# Altium integrated library TI Amplifiers and Linear Operational Amplifier Precision Amplifier Part Two.IntLib: 2300 symbols (part 41 of 81)
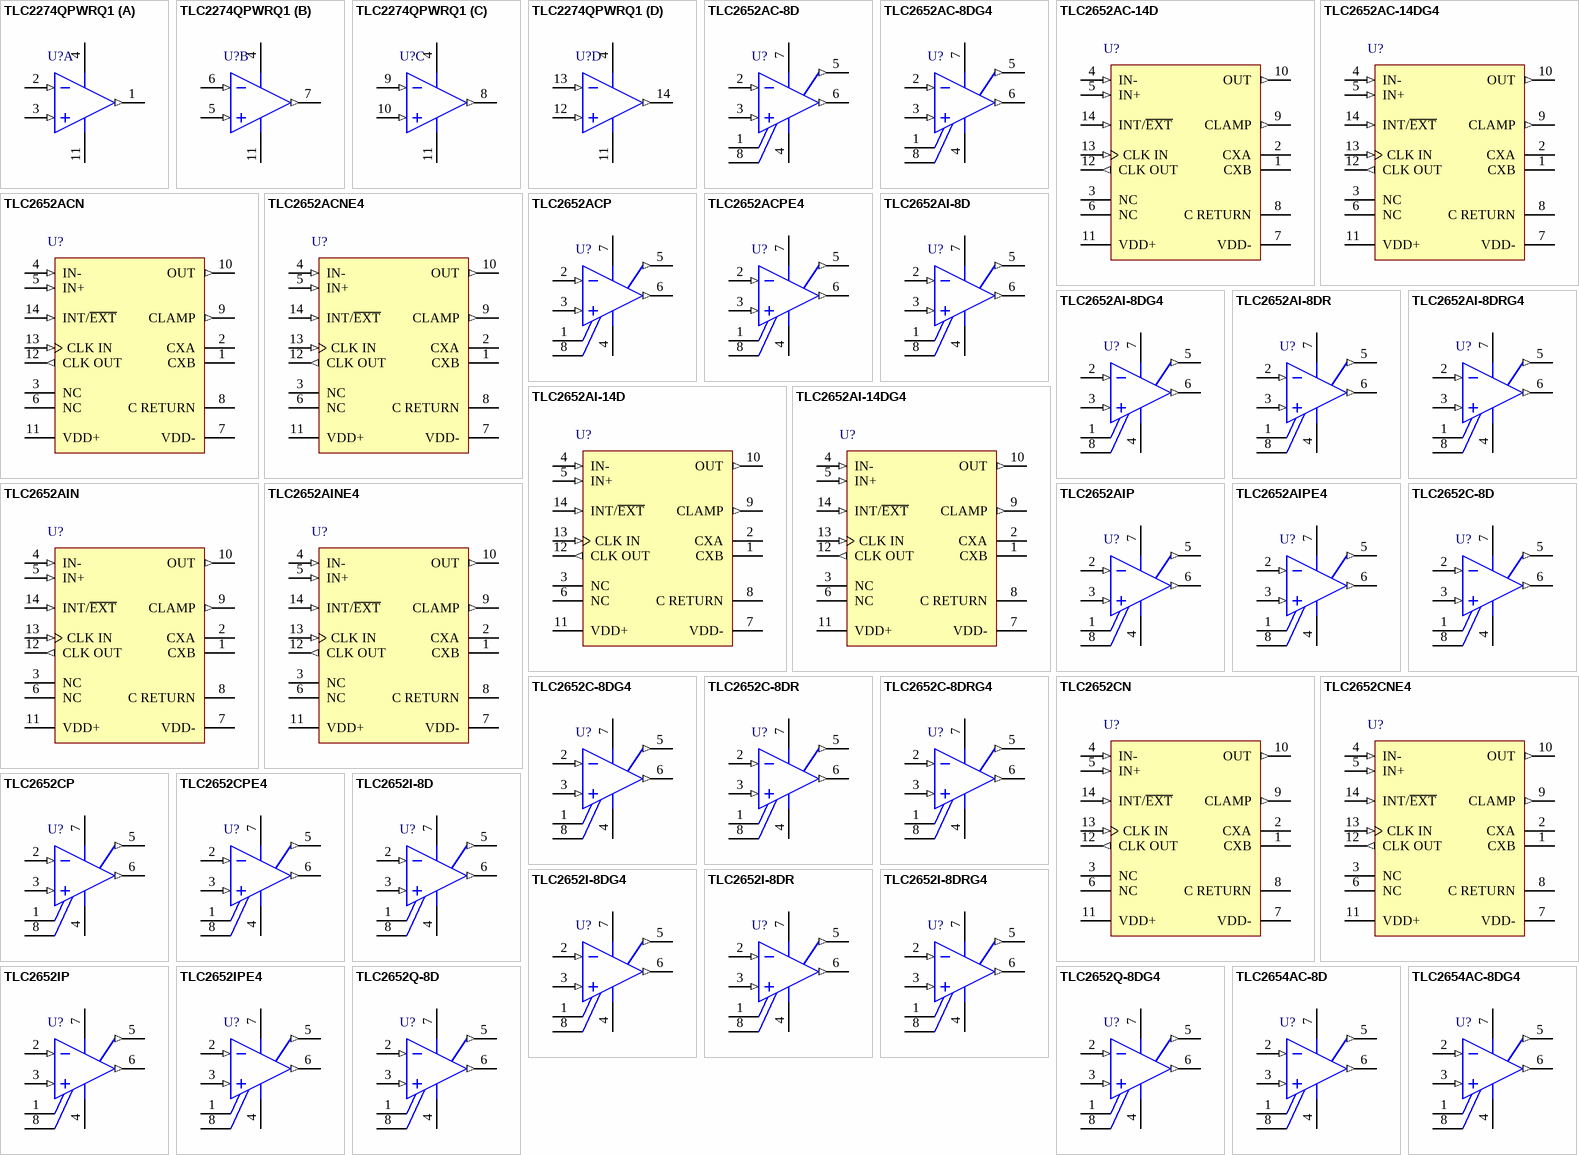
[diagram p176: symbols TLC2274QPWRQ1 to TLC2654AC-8DG4]

## TLC2652C-8DRG4
designator U?
Precision Chopper-Stabilized Operational Amplifier, 3.8 to 16 V, 0 to 70 degC, 8-pin SOIC (D8), Green (RoHS & no Sb/Br); Manufacturer: Texas Instruments; PartNumber: TLC2652C-8DRG4; CMRR(Min)(dB): 120; GBW(Typ)(MHz): 1.9; IIB(Max)(pA): 60; Iq per channel(Max)(mA): 2.4; Number of Channels: 1; Offset Drift(Typ)(uV/C): 0.003; Packing: LARGE T&R; Rating: Catalog; Slew Rate(Typ)(V/us): 2.8; Sub Family: Low Offset Voltage Amplifier (<=500uV), Precision Amplifier; Total Supply Voltage(Max)(+5V is 5, +/-5V is 10): 16; Total Supply Voltage(Min)(+5V is 5, +/-5V is 10): 3.8; DatasheetVersion: SLOS019E; PackageVersion: 4040047-3/M, 06/2011; PackageReference: D8; PackageDescription: 8-Pin Plastic Small Outline, Body 4.9 x 3.9 mm, Pitch 1.27 mm; Supplier 1: Digi-Key; Supplier Part Number 1: TLC2652C-8DRG4-ND; Supplier 2: Mouser; Supplier Part Number 2: 595-TLC2652C-8DRG4; Eco-Plan: Green (RoHS & no Sb/Br); Vio (25C)(Max)(mV): 0.003; Mounting Technology: Surface Mount; Code_JEDEC: MS-012; ComponentLink1Description: Manufacturer URL; ComponentLink1URL: http://www.ti.com/; ComponentLink2Description: Datasheet; ComponentLink2URL: http://www.ti.com/lit/ds/symlink/tlc2652.pdf; ComponentLink3Description: Package Specification; ComponentLink3URL: http://www.ti.com/litv/pdf/msoi002j
footprint TI-D8_N (SOIC, 8-Leads, Body 4.9x3.9mm, Pitch 1.27mm, IPC Medium Density)
footprint TI-D8_L (SOIC, 8-Leads, Body 4.9x3.9mm, Pitch 1.27mm, IPC High Density)
footprint TI-D8_M (SOIC, 8-Leads, Body 4.9x3.9mm, Pitch 1.27mm, IPC Low Density)
pins: 1 CXA, 2 IN- (in), 3 IN+ (in), 4 VDD- (power), 5 CLAMP (out), 6 OUT (out), 7 VDD+ (power), 8 CXB

## TLC2652CN
designator U?
Precision Chopper-Stabilized Operational Amplifier, 3.8 to 16 V, 0 to 70 degC, 14-pin DIP (N14), Pb-Free (RoHS); Manufacturer: Texas Instruments; PartNumber: TLC2652CN; CMRR(Min)(dB): 120; GBW(Typ)(MHz): 1.9; IIB(Max)(pA): 60; Iq per channel(Max)(mA): 2.4; Number of Channels: 1; Offset Drift(Typ)(uV/C): 0.003; Packing: TUBE; Rating: Catalog; Slew Rate(Typ)(V/us): 2.8; Sub Family: Low Offset Voltage Amplifier (<=500uV), Precision Amplifier; Total Supply Voltage(Max)(+5V is 5, +/-5V is 10): 16; Total Supply Voltage(Min)(+5V is 5, +/-5V is 10): 3.8; DatasheetVersion: SLOS019E; PackageVersion: 4040049/E, 12/2002; PackageReference: N14; PackageDescription: 14-Pin Plastic In-Line, Body 19.305 x 6.35 mm, Pitch 2.54 mm; Supplier 1: Digi-Key; Supplier Part Number 1: 296-7322-5-ND; Supplier 2: Farnell; Supplier Part Number 2: 3054524; Supplier 3: Newark; Supplier Part Number 3: 76C7043; Supplier 4: Mouser; Supplier Part Number 4: 595-TLC2652CN; Eco-Plan: Pb-Free (RoHS); Vio (25C)(Max)(mV): 0.003; Mounting Technology: Through Hole; Code_JEDEC: MS-001; ComponentLink1Description: Manufacturer URL; ComponentLink1URL: http://www.ti.com/; ComponentLink2Description: Datasheet; ComponentLink2URL: http://www.ti.com/lit/ds/symlink/tlc2652.pdf; ComponentLink3Description: Package Specification; ComponentLink3URL: http://www.ti.com/lit/ml/mpdi002c/mpdi002c.pdf
footprint TI-N14 (DIP, 14-Leads, Body 19.305x6.35 mm, Pitch 2.54 mm)
pins: 1 CXB, 2 CXA, 3 NC, 4 IN- (in), 5 IN+ (in), 6 NC, 7 VDD- (power), 8 C RETURN (power), 9 CLAMP (out), 10 OUT (out), 11 VDD+ (power), 12 CLK OUT (out), 13 CLK IN (in), 14 INT/~{EXT} (in)

## TLC2652CNE4
designator U?
Precision Chopper-Stabilized Operational Amplifier, 3.8 to 16 V, 0 to 70 degC, 14-pin DIP (N14), Pb-Free (RoHS); Manufacturer: Texas Instruments; PartNumber: TLC2652CNE4; CMRR(Min)(dB): 120; GBW(Typ)(MHz): 1.9; IIB(Max)(pA): 60; Iq per channel(Max)(mA): 2.4; Number of Channels: 1; Offset Drift(Typ)(uV/C): 0.003; Packing: TUBE; Rating: Catalog; Slew Rate(Typ)(V/us): 2.8; Sub Family: Low Offset Voltage Amplifier (<=500uV), Precision Amplifier; Total Supply Voltage(Max)(+5V is 5, +/-5V is 10): 16; Total Supply Voltage(Min)(+5V is 5, +/-5V is 10): 3.8; DatasheetVersion: SLOS019E; PackageVersion: 4040049/E, 12/2002; PackageReference: N14; PackageDescription: 14-Pin Plastic In-Line, Body 19.305 x 6.35 mm, Pitch 2.54 mm; Supplier 1: Digi-Key; Supplier Part Number 1: TLC2652CNE4-ND; Supplier 2: Newark; Supplier Part Number 2: 24K5218; Supplier 3: Mouser; Supplier Part Number 3: 595-TLC2652CNE4; Eco-Plan: Pb-Free (RoHS); Vio (25C)(Max)(mV): 0.003; Mounting Technology: Through Hole; Code_JEDEC: MS-001; ComponentLink1Description: Manufacturer URL; ComponentLink1URL: http://www.ti.com/; ComponentLink2Description: Datasheet; ComponentLink2URL: http://www.ti.com/lit/ds/symlink/tlc2652.pdf; ComponentLink3Description: Package Specification; ComponentLink3URL: http://www.ti.com/lit/ml/mpdi002c/mpdi002c.pdf
footprint TI-N14 (DIP, 14-Leads, Body 19.305x6.35 mm, Pitch 2.54 mm)
pins: 1 CXB, 2 CXA, 3 NC, 4 IN- (in), 5 IN+ (in), 6 NC, 7 VDD- (power), 8 C RETURN (power), 9 CLAMP (out), 10 OUT (out), 11 VDD+ (power), 12 CLK OUT (out), 13 CLK IN (in), 14 INT/~{EXT} (in)

## TLC2652CP
designator U?
Precision Chopper-Stabilized Operational Amplifier, 3.8 to 16 V, 0 to 70 degC, 8-pin DIP (P8), Pb-Free (RoHS); Manufacturer: Texas Instruments; PartNumber: TLC2652CP; CMRR(Min)(dB): 120; GBW(Typ)(MHz): 1.9; IIB(Max)(pA): 60; Iq per channel(Max)(mA): 2.4; Number of Channels: 1; Offset Drift(Typ)(uV/C): 0.003; Packing: TUBE; Rating: Catalog; Slew Rate(Typ)(V/us): 2.8; Sub Family: Low Offset Voltage Amplifier (<=500uV), Precision Amplifier; Total Supply Voltage(Max)(+5V is 5, +/-5V is 10): 16; Total Supply Voltage(Min)(+5V is 5, +/-5V is 10): 3.8; DatasheetVersion: SLOS019E; PackageVersion: 4040082/E, 04/2010; PackageReference: P8; PackageDescription: 8-Pin Plastic In-Line, Body 9.59 x 6.35 mm, Pitch 2.54 mm; Supplier 1: Digi-Key; Supplier Part Number 1: 296-7323-5-ND; Supplier 2: Farnell; Supplier Part Number 2: 1102937; Supplier 3: Newark; Supplier Part Number 3: 24M8276; Supplier 4: Mouser; Supplier Part Number 4: 595-TLC2652CP; Eco-Plan: Pb-Free (RoHS); Vio (25C)(Max)(mV): 0.003; Mounting Technology: Through Hole; Code_JEDEC: MS-001; ComponentLink1Description: Manufacturer URL; ComponentLink1URL: http://www.ti.com/; ComponentLink2Description: Datasheet; ComponentLink2URL: http://www.ti.com/lit/ds/symlink/tlc2652.pdf; ComponentLink3Description: Package Specification; ComponentLink3URL: http://www.ti.com/litv/pdf/mpdi001b
footprint TI-P8 (DIP, 8-Leads, Body 9.59x6.35mm, Pitch 2.54mm)
pins: 1 CXA, 2 IN- (in), 3 IN+ (in), 4 VDD- (power), 5 CLAMP (out), 6 OUT (out), 7 VDD+ (power), 8 CXB

## TLC2652CPE4
designator U?
Precision Chopper-Stabilized Operational Amplifier, 3.8 to 16 V, 0 to 70 degC, 8-pin DIP (P8), Pb-Free (RoHS); Manufacturer: Texas Instruments; PartNumber: TLC2652CPE4; CMRR(Min)(dB): 120; GBW(Typ)(MHz): 1.9; IIB(Max)(pA): 60; Iq per channel(Max)(mA): 2.4; Number of Channels: 1; Offset Drift(Typ)(uV/C): 0.003; Packing: TUBE; Rating: Catalog; Slew Rate(Typ)(V/us): 2.8; Sub Family: Low Offset Voltage Amplifier (<=500uV), Precision Amplifier; Total Supply Voltage(Max)(+5V is 5, +/-5V is 10): 16; Total Supply Voltage(Min)(+5V is 5, +/-5V is 10): 3.8; DatasheetVersion: SLOS019E; PackageVersion: 4040082/E, 04/2010; PackageReference: P8; PackageDescription: 8-Pin Plastic In-Line, Body 9.59 x 6.35 mm, Pitch 2.54 mm; Supplier 1: Digi-Key; Supplier Part Number 1: TLC2652CPE4-ND; Supplier 2: Mouser; Supplier Part Number 2: 595-TLC2652CPE4; Eco-Plan: Pb-Free (RoHS); Vio (25C)(Max)(mV): 0.003; Mounting Technology: Through Hole; Code_JEDEC: MS-001; ComponentLink1Description: Manufacturer URL; ComponentLink1URL: http://www.ti.com/; ComponentLink2Description: Datasheet; ComponentLink2URL: http://www.ti.com/lit/ds/symlink/tlc2652.pdf; ComponentLink3Description: Package Specification; ComponentLink3URL: http://www.ti.com/litv/pdf/mpdi001b
footprint TI-P8 (DIP, 8-Leads, Body 9.59x6.35mm, Pitch 2.54mm)
pins: 1 CXA, 2 IN- (in), 3 IN+ (in), 4 VDD- (power), 5 CLAMP (out), 6 OUT (out), 7 VDD+ (power), 8 CXB

## TLC2652I-8D
designator U?
Precision Chopper-Stabilized Operational Amplifier, 3.8 to 16 V, -40 to 85 degC, 8-pin SOIC (D8), Green (RoHS & no Sb/Br); Manufacturer: Texas Instruments; PartNumber: TLC2652I-8D; CMRR(Min)(dB): 120; GBW(Typ)(MHz): 1.9; IIB(Max)(pA): 60; Iq per channel(Max)(mA): 2.4; Number of Channels: 1; Offset Drift(Typ)(uV/C): 0.003; Packing: TUBE; Rating: Catalog; Slew Rate(Typ)(V/us): 2.8; Sub Family: Low Offset Voltage Amplifier (<=500uV), Precision Amplifier; Total Supply Voltage(Max)(+5V is 5, +/-5V is 10): 16; Total Supply Voltage(Min)(+5V is 5, +/-5V is 10): 3.8; DatasheetVersion: SLOS019E; PackageVersion: 4040047-3/M, 06/2011; PackageReference: D8; PackageDescription: 8-Pin Plastic Small Outline, Body 4.9 x 3.9 mm, Pitch 1.27 mm; Supplier 1: Digi-Key; Supplier Part Number 1: 296-7324-5-ND; Supplier 2: Newark; Supplier Part Number 2: 76C7045; Supplier 3: Mouser; Supplier Part Number 3: 595-TLC2652I-8D; Eco-Plan: Green (RoHS & no Sb/Br); Vio (25C)(Max)(mV): 0.003; Mounting Technology: Surface Mount; Code_JEDEC: MS-012; ComponentLink1Description: Manufacturer URL; ComponentLink1URL: http://www.ti.com/; ComponentLink2Description: Datasheet; ComponentLink2URL: http://www.ti.com/lit/ds/symlink/tlc2652.pdf; ComponentLink3Description: Package Specification; ComponentLink3URL: http://www.ti.com/litv/pdf/msoi002j
footprint TI-D8_N (SOIC, 8-Leads, Body 4.9x3.9mm, Pitch 1.27mm, IPC Medium Density)
footprint TI-D8_L (SOIC, 8-Leads, Body 4.9x3.9mm, Pitch 1.27mm, IPC High Density)
footprint TI-D8_M (SOIC, 8-Leads, Body 4.9x3.9mm, Pitch 1.27mm, IPC Low Density)
pins: 1 CXA, 2 IN- (in), 3 IN+ (in), 4 VDD- (power), 5 CLAMP (out), 6 OUT (out), 7 VDD+ (power), 8 CXB

## TLC2652I-8DG4
designator U?
Precision Chopper-Stabilized Operational Amplifier, 3.8 to 16 V, -40 to 85 degC, 8-pin SOIC (D8), Green (RoHS & no Sb/Br); Manufacturer: Texas Instruments; PartNumber: TLC2652I-8DG4; CMRR(Min)(dB): 120; GBW(Typ)(MHz): 1.9; IIB(Max)(pA): 60; Iq per channel(Max)(mA): 2.4; Number of Channels: 1; Offset Drift(Typ)(uV/C): 0.003; Packing: TUBE; Rating: Catalog; Slew Rate(Typ)(V/us): 2.8; Sub Family: Low Offset Voltage Amplifier (<=500uV), Precision Amplifier; Total Supply Voltage(Max)(+5V is 5, +/-5V is 10): 16; Total Supply Voltage(Min)(+5V is 5, +/-5V is 10): 3.8; DatasheetVersion: SLOS019E; PackageVersion: 4040047-3/M, 06/2011; PackageReference: D8; PackageDescription: 8-Pin Plastic Small Outline, Body 4.9 x 3.9 mm, Pitch 1.27 mm; Supplier 1: Digi-Key; Supplier Part Number 1: TLC2652I-8DG4-ND; Supplier 2: Mouser; Supplier Part Number 2: 595-TLC2652I-8DG4; Eco-Plan: Green (RoHS & no Sb/Br); Vio (25C)(Max)(mV): 0.003; Mounting Technology: Surface Mount; Code_JEDEC: MS-012; ComponentLink1Description: Manufacturer URL; ComponentLink1URL: http://www.ti.com/; ComponentLink2Description: Datasheet; ComponentLink2URL: http://www.ti.com/lit/ds/symlink/tlc2652.pdf; ComponentLink3Description: Package Specification; ComponentLink3URL: http://www.ti.com/litv/pdf/msoi002j
footprint TI-D8_N (SOIC, 8-Leads, Body 4.9x3.9mm, Pitch 1.27mm, IPC Medium Density)
footprint TI-D8_L (SOIC, 8-Leads, Body 4.9x3.9mm, Pitch 1.27mm, IPC High Density)
footprint TI-D8_M (SOIC, 8-Leads, Body 4.9x3.9mm, Pitch 1.27mm, IPC Low Density)
pins: 1 CXA, 2 IN- (in), 3 IN+ (in), 4 VDD- (power), 5 CLAMP (out), 6 OUT (out), 7 VDD+ (power), 8 CXB

## TLC2652I-8DR
designator U?
Precision Chopper-Stabilized Operational Amplifier, 3.8 to 16 V, -40 to 85 degC, 8-pin SOIC (D8), Green (RoHS & no Sb/Br); Manufacturer: Texas Instruments; PartNumber: TLC2652I-8DR; CMRR(Min)(dB): 120; GBW(Typ)(MHz): 1.9; IIB(Max)(pA): 60; Iq per channel(Max)(mA): 2.4; Number of Channels: 1; Offset Drift(Typ)(uV/C): 0.003; Packing: LARGE T&R; Rating: Catalog; Slew Rate(Typ)(V/us): 2.8; Sub Family: Low Offset Voltage Amplifier (<=500uV), Precision Amplifier; Total Supply Voltage(Max)(+5V is 5, +/-5V is 10): 16; Total Supply Voltage(Min)(+5V is 5, +/-5V is 10): 3.8; DatasheetVersion: SLOS019E; PackageVersion: 4040047-3/M, 06/2011; PackageReference: D8; PackageDescription: 8-Pin Plastic Small Outline, Body 4.9 x 3.9 mm, Pitch 1.27 mm; Supplier 1: Digi-Key; Supplier Part Number 1: TLC2652I-8DR-ND; Supplier 2: Mouser; Supplier Part Number 2: 595-TLC2652I-8DR; Eco-Plan: Green (RoHS & no Sb/Br); Vio (25C)(Max)(mV): 0.003; Mounting Technology: Surface Mount; Code_JEDEC: MS-012; ComponentLink1Description: Manufacturer URL; ComponentLink1URL: http://www.ti.com/; ComponentLink2Description: Datasheet; ComponentLink2URL: http://www.ti.com/lit/ds/symlink/tlc2652.pdf; ComponentLink3Description: Package Specification; ComponentLink3URL: http://www.ti.com/litv/pdf/msoi002j
footprint TI-D8_N (SOIC, 8-Leads, Body 4.9x3.9mm, Pitch 1.27mm, IPC Medium Density)
footprint TI-D8_L (SOIC, 8-Leads, Body 4.9x3.9mm, Pitch 1.27mm, IPC High Density)
footprint TI-D8_M (SOIC, 8-Leads, Body 4.9x3.9mm, Pitch 1.27mm, IPC Low Density)
pins: 1 CXA, 2 IN- (in), 3 IN+ (in), 4 VDD- (power), 5 CLAMP (out), 6 OUT (out), 7 VDD+ (power), 8 CXB

## TLC2652I-8DRG4
designator U?
Precision Chopper-Stabilized Operational Amplifier, 3.8 to 16 V, -40 to 85 degC, 8-pin SOIC (D8), Green (RoHS & no Sb/Br); Manufacturer: Texas Instruments; PartNumber: TLC2652I-8DRG4; CMRR(Min)(dB): 120; GBW(Typ)(MHz): 1.9; IIB(Max)(pA): 60; Iq per channel(Max)(mA): 2.4; Number of Channels: 1; Offset Drift(Typ)(uV/C): 0.003; Packing: LARGE T&R; Rating: Catalog; Slew Rate(Typ)(V/us): 2.8; Sub Family: Low Offset Voltage Amplifier (<=500uV), Precision Amplifier; Total Supply Voltage(Max)(+5V is 5, +/-5V is 10): 16; Total Supply Voltage(Min)(+5V is 5, +/-5V is 10): 3.8; DatasheetVersion: SLOS019E; PackageVersion: 4040047-3/M, 06/2011; PackageReference: D8; PackageDescription: 8-Pin Plastic Small Outline, Body 4.9 x 3.9 mm, Pitch 1.27 mm; Supplier 1: Digi-Key; Supplier Part Number 1: TLC2652I-8DRG4-ND; Supplier 2: Mouser; Supplier Part Number 2: 595-TLC2652I-8DRG4; Eco-Plan: Green (RoHS & no Sb/Br); Vio (25C)(Max)(mV): 0.003; Mounting Technology: Surface Mount; Code_JEDEC: MS-012; ComponentLink1Description: Manufacturer URL; ComponentLink1URL: http://www.ti.com/; ComponentLink2Description: Datasheet; ComponentLink2URL: http://www.ti.com/lit/ds/symlink/tlc2652.pdf; ComponentLink3Description: Package Specification; ComponentLink3URL: http://www.ti.com/litv/pdf/msoi002j
footprint TI-D8_N (SOIC, 8-Leads, Body 4.9x3.9mm, Pitch 1.27mm, IPC Medium Density)
footprint TI-D8_L (SOIC, 8-Leads, Body 4.9x3.9mm, Pitch 1.27mm, IPC High Density)
footprint TI-D8_M (SOIC, 8-Leads, Body 4.9x3.9mm, Pitch 1.27mm, IPC Low Density)
pins: 1 CXA, 2 IN- (in), 3 IN+ (in), 4 VDD- (power), 5 CLAMP (out), 6 OUT (out), 7 VDD+ (power), 8 CXB

## TLC2652IP
designator U?
Precision Chopper-Stabilized Operational Amplifier, 3.8 to 16 V, -40 to 85 degC, 8-pin DIP (P8), Pb-Free (RoHS); Manufacturer: Texas Instruments; PartNumber: TLC2652IP; CMRR(Min)(dB): 120; GBW(Typ)(MHz): 1.9; IIB(Max)(pA): 60; Iq per channel(Max)(mA): 2.4; Number of Channels: 1; Offset Drift(Typ)(uV/C): 0.003; Packing: TUBE; Rating: Catalog; Slew Rate(Typ)(V/us): 2.8; Sub Family: Low Offset Voltage Amplifier (<=500uV), Precision Amplifier; Total Supply Voltage(Max)(+5V is 5, +/-5V is 10): 16; Total Supply Voltage(Min)(+5V is 5, +/-5V is 10): 3.8; DatasheetVersion: SLOS019E; PackageVersion: 4040082/E, 04/2010; PackageReference: P8; PackageDescription: 8-Pin Plastic In-Line, Body 9.59 x 6.35 mm, Pitch 2.54 mm; Supplier 1: Digi-Key; Supplier Part Number 1: TLC2652IP-ND; Supplier 2: Mouser; Supplier Part Number 2: 595-TLC2652IP; Eco-Plan: Pb-Free (RoHS); Vio (25C)(Max)(mV): 0.003; Mounting Technology: Through Hole; Code_JEDEC: MS-001; ComponentLink1Description: Manufacturer URL; ComponentLink1URL: http://www.ti.com/; ComponentLink2Description: Datasheet; ComponentLink2URL: http://www.ti.com/lit/ds/symlink/tlc2652.pdf; ComponentLink3Description: Package Specification; ComponentLink3URL: http://www.ti.com/litv/pdf/mpdi001b
footprint TI-P8 (DIP, 8-Leads, Body 9.59x6.35mm, Pitch 2.54mm)
pins: 1 CXA, 2 IN- (in), 3 IN+ (in), 4 VDD- (power), 5 CLAMP (out), 6 OUT (out), 7 VDD+ (power), 8 CXB

## TLC2652IPE4
designator U?
Precision Chopper-Stabilized Operational Amplifier, 3.8 to 16 V, -40 to 85 degC, 8-pin DIP (P8), Pb-Free (RoHS); Manufacturer: Texas Instruments; PartNumber: TLC2652IPE4; CMRR(Min)(dB): 120; GBW(Typ)(MHz): 1.9; IIB(Max)(pA): 60; Iq per channel(Max)(mA): 2.4; Number of Channels: 1; Offset Drift(Typ)(uV/C): 0.003; Packing: TUBE; Rating: Catalog; Slew Rate(Typ)(V/us): 2.8; Sub Family: Low Offset Voltage Amplifier (<=500uV), Precision Amplifier; Total Supply Voltage(Max)(+5V is 5, +/-5V is 10): 16; Total Supply Voltage(Min)(+5V is 5, +/-5V is 10): 3.8; DatasheetVersion: SLOS019E; PackageVersion: 4040082/E, 04/2010; PackageReference: P8; PackageDescription: 8-Pin Plastic In-Line, Body 9.59 x 6.35 mm, Pitch 2.54 mm; Supplier 1: Digi-Key; Supplier Part Number 1: TLC2652IPE4-ND; Supplier 2: Mouser; Supplier Part Number 2: 595-TLC2652IPE4; Eco-Plan: Pb-Free (RoHS); Vio (25C)(Max)(mV): 0.003; Mounting Technology: Through Hole; Code_JEDEC: MS-001; ComponentLink1Description: Manufacturer URL; ComponentLink1URL: http://www.ti.com/; ComponentLink2Description: Datasheet; ComponentLink2URL: http://www.ti.com/lit/ds/symlink/tlc2652.pdf; ComponentLink3Description: Package Specification; ComponentLink3URL: http://www.ti.com/litv/pdf/mpdi001b
footprint TI-P8 (DIP, 8-Leads, Body 9.59x6.35mm, Pitch 2.54mm)
pins: 1 CXA, 2 IN- (in), 3 IN+ (in), 4 VDD- (power), 5 CLAMP (out), 6 OUT (out), 7 VDD+ (power), 8 CXB

## TLC2652Q-8D
designator U?
Precision Chopper-Stabilized Operational Amplifier, 3.8 to 16 V, -40 to 125 degC, 8-pin SOIC (D8), Green (RoHS & no Sb/Br); Manufacturer: Texas Instruments; PartNumber: TLC2652Q-8D; CMRR(Min)(dB): 120; GBW(Typ)(MHz): 1.9; IIB(Max)(pA): 60; Iq per channel(Max)(mA): 2.4; Number of Channels: 1; Offset Drift(Typ)(uV/C): 0.003; Packing: SMALL T&R; Rating: Catalog; Slew Rate(Typ)(V/us): 2.8; Sub Family: Low Offset Voltage Amplifier (<=500uV), Precision Amplifier; Total Supply Voltage(Max)(+5V is 5, +/-5V is 10): 16; Total Supply Voltage(Min)(+5V is 5, +/-5V is 10): 3.8; Vio (25C)(Max)(mV): 0.0035; DatasheetVersion: SLOS019E; PackageVersion: 4040047-3/M, 06/2011; PackageReference: D8; PackageDescription: 8-Pin Plastic Small Outline, Body 4.9 x 3.9 mm, Pitch 1.27 mm; Supplier 1: Digi-Key; Supplier Part Number 1: 296-7326-5-ND; Supplier 2: Mouser; Supplier Part Number 2: 595-TLC2652Q-8D; Eco-Plan: Green (RoHS & no Sb/Br); Mounting Technology: Surface Mount; Code_JEDEC: MS-012; ComponentLink1Description: Manufacturer URL; ComponentLink1URL: http://www.ti.com/; ComponentLink2Description: Datasheet; ComponentLink2URL: http://www.ti.com/lit/ds/symlink/tlc2652.pdf; ComponentLink3Description: Package Specification; ComponentLink3URL: http://www.ti.com/litv/pdf/msoi002j
footprint TI-D8_N (SOIC, 8-Leads, Body 4.9x3.9mm, Pitch 1.27mm, IPC Medium Density)
footprint TI-D8_L (SOIC, 8-Leads, Body 4.9x3.9mm, Pitch 1.27mm, IPC High Density)
footprint TI-D8_M (SOIC, 8-Leads, Body 4.9x3.9mm, Pitch 1.27mm, IPC Low Density)
pins: 1 CXA, 2 IN- (in), 3 IN+ (in), 4 VDD- (power), 5 CLAMP (out), 6 OUT (out), 7 VDD+ (power), 8 CXB

## TLC2652Q-8DG4
designator U?
Precision Chopper-Stabilized Operational Amplifier, 3.8 to 16 V, -40 to 125 degC, 8-pin SOIC (D8), Green (RoHS & no Sb/Br); Manufacturer: Texas Instruments; PartNumber: TLC2652Q-8DG4; CMRR(Min)(dB): 120; GBW(Typ)(MHz): 1.9; IIB(Max)(pA): 60; Iq per channel(Max)(mA): 2.4; Number of Channels: 1; Offset Drift(Typ)(uV/C): 0.003; Packing: SMALL T&R; Rating: Catalog; Slew Rate(Typ)(V/us): 2.8; Sub Family: Low Offset Voltage Amplifier (<=500uV), Precision Amplifier; Total Supply Voltage(Max)(+5V is 5, +/-5V is 10): 16; Total Supply Voltage(Min)(+5V is 5, +/-5V is 10): 3.8; Vio (25C)(Max)(mV): 0.0035; DatasheetVersion: SLOS019E; PackageVersion: 4040047-3/M, 06/2011; PackageReference: D8; PackageDescription: 8-Pin Plastic Small Outline, Body 4.9 x 3.9 mm, Pitch 1.27 mm; Supplier 1: Digi-Key; Supplier Part Number 1: 296-34347-5-ND; Supplier 2: Mouser; Supplier Part Number 2: 595-TLC2652Q-8DG4; Eco-Plan: Green (RoHS & no Sb/Br); Mounting Technology: Surface Mount; Code_JEDEC: MS-012; ComponentLink1Description: Manufacturer URL; ComponentLink1URL: http://www.ti.com/; ComponentLink2Description: Datasheet; ComponentLink2URL: http://www.ti.com/lit/ds/symlink/tlc2652.pdf; ComponentLink3Description: Package Specification; ComponentLink3URL: http://www.ti.com/litv/pdf/msoi002j
footprint TI-D8_N (SOIC, 8-Leads, Body 4.9x3.9mm, Pitch 1.27mm, IPC Medium Density)
footprint TI-D8_L (SOIC, 8-Leads, Body 4.9x3.9mm, Pitch 1.27mm, IPC High Density)
footprint TI-D8_M (SOIC, 8-Leads, Body 4.9x3.9mm, Pitch 1.27mm, IPC Low Density)
pins: 1 CXA, 2 IN- (in), 3 IN+ (in), 4 VDD- (power), 5 CLAMP (out), 6 OUT (out), 7 VDD+ (power), 8 CXB

## TLC2654AC-8D
designator U?
Advanced LinCMOS(TM) Low-Noise Chopper-Stabilized Operational Amplifier, 4.6 to 16 V, 0 to 70 degC, 8-pin SOIC (D8), Green (RoHS & no Sb/Br); Manufacturer: Texas Instruments; PartNumber: TLC2654AC-8D; CMRR(Min)(dB): 110; GBW(Typ)(MHz): 1.9; IIB(Max)(pA): 60; Iq per channel(Max)(mA): 2.4; Number of Channels: 1; Offset Drift(Typ)(uV/C): 0.01; Packing: TUBE; Rating: Catalog; Slew Rate(Typ)(V/us): 2; Sub Family: Low Offset Voltage Amplifier (<=500uV), Precision Amplifier; Total Supply Voltage(Max)(+5V is 5, +/-5V is 10): 16; Total Supply Voltage(Min)(+5V is 5, +/-5V is 10): 4.6; DatasheetVersion: SLOS020G; PackageVersion: 4040047-3/M, 06/2011; PackageReference: D8; PackageDescription: 8-Pin Plastic Small Outline, Body 4.9 x 3.9 mm, Pitch 1.27 mm; Supplier 1: Digi-Key; Supplier Part Number 1: 296-7327-5-ND; Supplier 2: Newark; Supplier Part Number 2: 76C7050; Supplier 3: Mouser; Supplier Part Number 3: 595-TLC2654AC-8D; Eco-Plan: Green (RoHS & no Sb/Br); Vio (25C)(Max)(mV): 0.01; Mounting Technology: Surface Mount; Code_JEDEC: MS-012; ComponentLink1Description: Manufacturer URL; ComponentLink1URL: http://www.ti.com/; ComponentLink2Description: Datasheet; ComponentLink2URL: http://www.ti.com/lit/ds/symlink/tlc2654a.pdf; ComponentLink3Description: Package Specification; ComponentLink3URL: http://www.ti.com/litv/pdf/msoi002j
footprint TI-D8_N (SOIC, 8-Leads, Body 4.9x3.9mm, Pitch 1.27mm, IPC Medium Density)
footprint TI-D8_L (SOIC, 8-Leads, Body 4.9x3.9mm, Pitch 1.27mm, IPC High Density)
footprint TI-D8_M (SOIC, 8-Leads, Body 4.9x3.9mm, Pitch 1.27mm, IPC Low Density)
pins: 1 CXA, 2 IN- (in), 3 IN+ (in), 4 VDD- (power), 5 CLAMP (out), 6 OUT (out), 7 VDD+ (power), 8 CXB

## TLC2654AC-8DG4
designator U?
Advanced LinCMOS(TM) Low-Noise Chopper-Stabilized Operational Amplifier, 4.6 to 16 V, 0 to 70 degC, 8-pin SOIC (D8), Green (RoHS & no Sb/Br); Manufacturer: Texas Instruments; PartNumber: TLC2654AC-8DG4; CMRR(Min)(dB): 110; GBW(Typ)(MHz): 1.9; IIB(Max)(pA): 60; Iq per channel(Max)(mA): 2.4; Number of Channels: 1; Offset Drift(Typ)(uV/C): 0.01; Packing: TUBE; Rating: Catalog; Slew Rate(Typ)(V/us): 2; Sub Family: Low Offset Voltage Amplifier (<=500uV), Precision Amplifier; Total Supply Voltage(Max)(+5V is 5, +/-5V is 10): 16; Total Supply Voltage(Min)(+5V is 5, +/-5V is 10): 4.6; DatasheetVersion: SLOS020G; PackageVersion: 4040047-3/M, 06/2011; PackageReference: D8; PackageDescription: 8-Pin Plastic Small Outline, Body 4.9 x 3.9 mm, Pitch 1.27 mm; Supplier 1: Digi-Key; Supplier Part Number 1: TLC2654AC-8DG4-ND; Supplier 2: Mouser; Supplier Part Number 2: 595-TLC2654AC-8DG4; Eco-Plan: Green (RoHS & no Sb/Br); Vio (25C)(Max)(mV): 0.01; Mounting Technology: Surface Mount; Code_JEDEC: MS-012; ComponentLink1Description: Manufacturer URL; ComponentLink1URL: http://www.ti.com/; ComponentLink2Description: Datasheet; ComponentLink2URL: http://www.ti.com/lit/ds/symlink/tlc2654a.pdf; ComponentLink3Description: Package Specification; ComponentLink3URL: http://www.ti.com/litv/pdf/msoi002j
footprint TI-D8_N (SOIC, 8-Leads, Body 4.9x3.9mm, Pitch 1.27mm, IPC Medium Density)
footprint TI-D8_L (SOIC, 8-Leads, Body 4.9x3.9mm, Pitch 1.27mm, IPC High Density)
footprint TI-D8_M (SOIC, 8-Leads, Body 4.9x3.9mm, Pitch 1.27mm, IPC Low Density)
pins: 1 CXA, 2 IN- (in), 3 IN+ (in), 4 VDD- (power), 5 CLAMP (out), 6 OUT (out), 7 VDD+ (power), 8 CXB

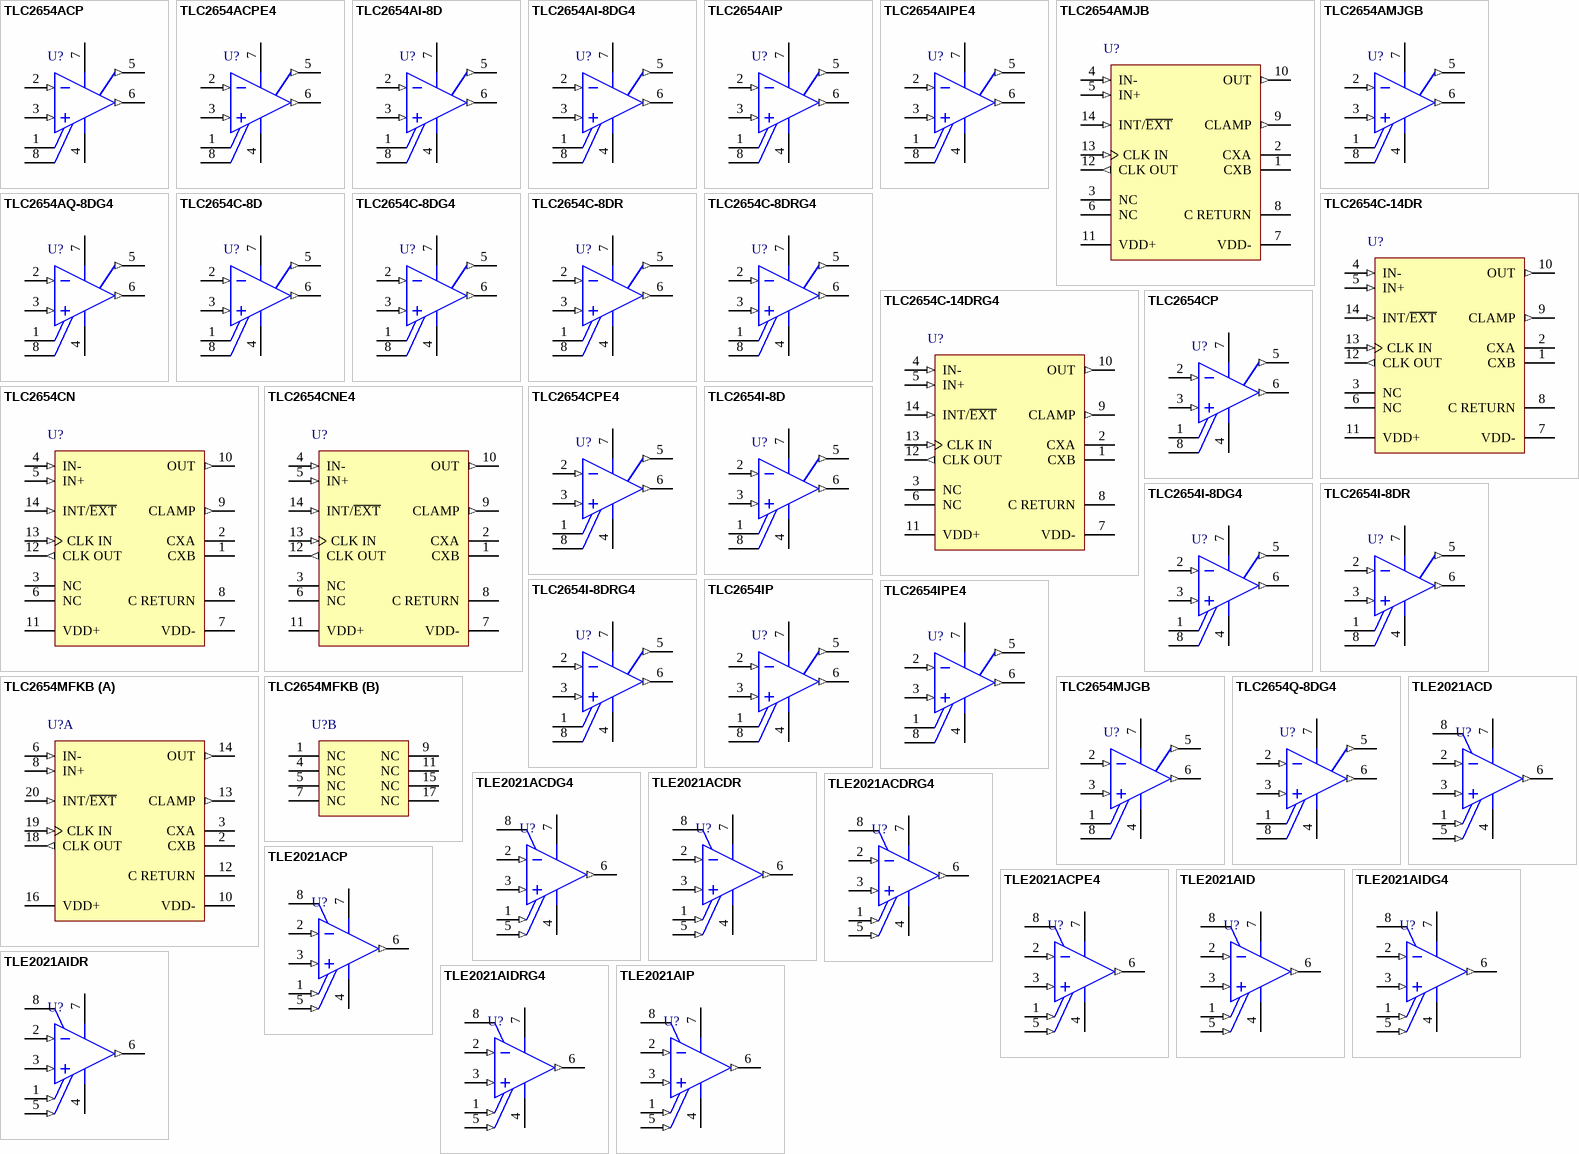
[diagram p71: symbols TLC2654ACP to TLE2021AIP]

## TLC2654ACP
designator U?
Advanced LinCMOS(TM) Low-Noise Chopper-Stabilized Operational Amplifier, 4.6 to 16 V, 0 to 70 degC, 8-pin DIP (P8), Pb-Free (RoHS); Manufacturer: Texas Instruments; PartNumber: TLC2654ACP; CMRR(Min)(dB): 110; GBW(Typ)(MHz): 1.9; IIB(Max)(pA): 60; Iq per channel(Max)(mA): 2.4; Number of Channels: 1; Offset Drift(Typ)(uV/C): 0.01; Packing: TUBE; Rating: Catalog; Slew Rate(Typ)(V/us): 2; Sub Family: Low Offset Voltage Amplifier (<=500uV), Precision Amplifier; Total Supply Voltage(Max)(+5V is 5, +/-5V is 10): 16; Total Supply Voltage(Min)(+5V is 5, +/-5V is 10): 4.6; DatasheetVersion: SLOS020G; PackageVersion: 4040082/E, 04/2010; PackageReference: P8; PackageDescription: 8-Pin Plastic In-Line, Body 9.59 x 6.35 mm, Pitch 2.54 mm; Supplier 1: Digi-Key; Supplier Part Number 1: 296-7328-5-ND; Supplier 2: Newark; Supplier Part Number 2: 76C7052; Supplier 3: Mouser; Supplier Part Number 3: 595-TLC2654ACP; Eco-Plan: Pb-Free (RoHS); Vio (25C)(Max)(mV): 0.01; Mounting Technology: Through Hole; Code_JEDEC: MS-001; ComponentLink1Description: Manufacturer URL; ComponentLink1URL: http://www.ti.com/; ComponentLink2Description: Datasheet; ComponentLink2URL: http://www.ti.com/lit/ds/symlink/tlc2654a.pdf; ComponentLink3Description: Package Specification; ComponentLink3URL: http://www.ti.com/litv/pdf/mpdi001b
footprint TI-P8 (DIP, 8-Leads, Body 9.59x6.35mm, Pitch 2.54mm)
pins: 1 CXA, 2 IN- (in), 3 IN+ (in), 4 VDD- (power), 5 CLAMP (out), 6 OUT (out), 7 VDD+ (power), 8 CXB

## TLC2654ACPE4
designator U?
Advanced LinCMOS(TM) Low-Noise Chopper-Stabilized Operational Amplifier, 4.6 to 16 V, 0 to 70 degC, 8-pin DIP (P8), Pb-Free (RoHS); Manufacturer: Texas Instruments; PartNumber: TLC2654ACPE4; CMRR(Min)(dB): 110; GBW(Typ)(MHz): 1.9; IIB(Max)(pA): 60; Iq per channel(Max)(mA): 2.4; Number of Channels: 1; Offset Drift(Typ)(uV/C): 0.01; Packing: TUBE; Rating: Catalog; Slew Rate(Typ)(V/us): 2; Sub Family: Low Offset Voltage Amplifier (<=500uV), Precision Amplifier; Total Supply Voltage(Max)(+5V is 5, +/-5V is 10): 16; Total Supply Voltage(Min)(+5V is 5, +/-5V is 10): 4.6; DatasheetVersion: SLOS020G; PackageVersion: 4040082/E, 04/2010; PackageReference: P8; PackageDescription: 8-Pin Plastic In-Line, Body 9.59 x 6.35 mm, Pitch 2.54 mm; Supplier 1: Digi-Key; Supplier Part Number 1: TLC2654ACPE4-ND; Supplier 2: Newark; Supplier Part Number 2: 24K5221; Supplier 3: Mouser; Supplier Part Number 3: 595-TLC2654ACPE4; Eco-Plan: Pb-Free (RoHS); Vio (25C)(Max)(mV): 0.01; Mounting Technology: Through Hole; Code_JEDEC: MS-001; ComponentLink1Description: Manufacturer URL; ComponentLink1URL: http://www.ti.com/; ComponentLink2Description: Datasheet; ComponentLink2URL: http://www.ti.com/lit/ds/symlink/tlc2654a.pdf; ComponentLink3Description: Package Specification; ComponentLink3URL: http://www.ti.com/litv/pdf/mpdi001b
footprint TI-P8 (DIP, 8-Leads, Body 9.59x6.35mm, Pitch 2.54mm)
pins: 1 CXA, 2 IN- (in), 3 IN+ (in), 4 VDD- (power), 5 CLAMP (out), 6 OUT (out), 7 VDD+ (power), 8 CXB

## TLC2654AI-8D
designator U?
Advanced LinCMOS(TM) Low-Noise Chopper-Stabilized Operational Amplifier, 4.6 to 16 V, -40 to 85 degC, 8-pin SOIC (D8), Green (RoHS & no Sb/Br); Manufacturer: Texas Instruments; PartNumber: TLC2654AI-8D; CMRR(Min)(dB): 110; GBW(Typ)(MHz): 1.9; IIB(Max)(pA): 60; Iq per channel(Max)(mA): 2.4; Number of Channels: 1; Offset Drift(Typ)(uV/C): 0.01; Packing: TUBE; Rating: Catalog; Slew Rate(Typ)(V/us): 2; Sub Family: Low Offset Voltage Amplifier (<=500uV), Precision Amplifier; Total Supply Voltage(Max)(+5V is 5, +/-5V is 10): 16; Total Supply Voltage(Min)(+5V is 5, +/-5V is 10): 4.6; DatasheetVersion: SLOS020G; PackageVersion: 4040047-3/M, 06/2011; PackageReference: D8; PackageDescription: 8-Pin Plastic Small Outline, Body 4.9 x 3.9 mm, Pitch 1.27 mm; Supplier 1: Digi-Key; Supplier Part Number 1: 296-7329-5-ND; Supplier 2: Newark; Supplier Part Number 2: 97B9157; Supplier 3: Mouser; Supplier Part Number 3: 595-TLC2654AI-8D; Eco-Plan: Green (RoHS & no Sb/Br); Vio (25C)(Max)(mV): 0.01; Mounting Technology: Surface Mount; Code_JEDEC: MS-012; ComponentLink1Description: Manufacturer URL; ComponentLink1URL: http://www.ti.com/; ComponentLink2Description: Datasheet; ComponentLink2URL: http://www.ti.com/lit/ds/symlink/tlc2654a.pdf; ComponentLink3Description: Package Specification; ComponentLink3URL: http://www.ti.com/litv/pdf/msoi002j
footprint TI-D8_N (SOIC, 8-Leads, Body 4.9x3.9mm, Pitch 1.27mm, IPC Medium Density)
footprint TI-D8_L (SOIC, 8-Leads, Body 4.9x3.9mm, Pitch 1.27mm, IPC High Density)
footprint TI-D8_M (SOIC, 8-Leads, Body 4.9x3.9mm, Pitch 1.27mm, IPC Low Density)
pins: 1 CXA, 2 IN- (in), 3 IN+ (in), 4 VDD- (power), 5 CLAMP (out), 6 OUT (out), 7 VDD+ (power), 8 CXB

## TLC2654AI-8DG4
designator U?
Advanced LinCMOS(TM) Low-Noise Chopper-Stabilized Operational Amplifier, 4.6 to 16 V, -40 to 85 degC, 8-pin SOIC (D8), Green (RoHS & no Sb/Br); Manufacturer: Texas Instruments; PartNumber: TLC2654AI-8DG4; CMRR(Min)(dB): 110; GBW(Typ)(MHz): 1.9; IIB(Max)(pA): 60; Iq per channel(Max)(mA): 2.4; Number of Channels: 1; Offset Drift(Typ)(uV/C): 0.01; Packing: TUBE; Rating: Catalog; Slew Rate(Typ)(V/us): 2; Sub Family: Low Offset Voltage Amplifier (<=500uV), Precision Amplifier; Total Supply Voltage(Max)(+5V is 5, +/-5V is 10): 16; Total Supply Voltage(Min)(+5V is 5, +/-5V is 10): 4.6; DatasheetVersion: SLOS020G; PackageVersion: 4040047-3/M, 06/2011; PackageReference: D8; PackageDescription: 8-Pin Plastic Small Outline, Body 4.9 x 3.9 mm, Pitch 1.27 mm; Supplier 1: Digi-Key; Supplier Part Number 1: TLC2654AI-8DG4-ND; Supplier 2: Mouser; Supplier Part Number 2: 595-TLC2654AI-8DG4; Eco-Plan: Green (RoHS & no Sb/Br); Vio (25C)(Max)(mV): 0.01; Mounting Technology: Surface Mount; Code_JEDEC: MS-012; ComponentLink1Description: Manufacturer URL; ComponentLink1URL: http://www.ti.com/; ComponentLink2Description: Datasheet; ComponentLink2URL: http://www.ti.com/lit/ds/symlink/tlc2654a.pdf; ComponentLink3Description: Package Specification; ComponentLink3URL: http://www.ti.com/litv/pdf/msoi002j
footprint TI-D8_N (SOIC, 8-Leads, Body 4.9x3.9mm, Pitch 1.27mm, IPC Medium Density)
footprint TI-D8_L (SOIC, 8-Leads, Body 4.9x3.9mm, Pitch 1.27mm, IPC High Density)
footprint TI-D8_M (SOIC, 8-Leads, Body 4.9x3.9mm, Pitch 1.27mm, IPC Low Density)
pins: 1 CXA, 2 IN- (in), 3 IN+ (in), 4 VDD- (power), 5 CLAMP (out), 6 OUT (out), 7 VDD+ (power), 8 CXB

## TLC2654AIP
designator U?
Advanced LinCMOS(TM) Low-Noise Chopper-Stabilized Operational Amplifier, 4.6 to 16 V, -40 to 85 degC, 8-pin DIP (P8), Pb-Free (RoHS); Manufacturer: Texas Instruments; PartNumber: TLC2654AIP; CMRR(Min)(dB): 110; GBW(Typ)(MHz): 1.9; IIB(Max)(pA): 60; Iq per channel(Max)(mA): 2.4; Number of Channels: 1; Offset Drift(Typ)(uV/C): 0.01; Packing: TUBE; Rating: Catalog; Slew Rate(Typ)(V/us): 2; Sub Family: Low Offset Voltage Amplifier (<=500uV), Precision Amplifier; Total Supply Voltage(Max)(+5V is 5, +/-5V is 10): 16; Total Supply Voltage(Min)(+5V is 5, +/-5V is 10): 4.6; DatasheetVersion: SLOS020G; PackageVersion: 4040082/E, 04/2010; PackageReference: P8; PackageDescription: 8-Pin Plastic In-Line, Body 9.59 x 6.35 mm, Pitch 2.54 mm; Supplier 1: Digi-Key; Supplier Part Number 1: 296-7330-5-ND; Supplier 2: Newark; Supplier Part Number 2: 08F9049; Supplier 3: Mouser; Supplier Part Number 3: 595-TLC2654AIP; Eco-Plan: Pb-Free (RoHS); Vio (25C)(Max)(mV): 0.01; Mounting Technology: Through Hole; Code_JEDEC: MS-001; ComponentLink1Description: Manufacturer URL; ComponentLink1URL: http://www.ti.com/; ComponentLink2Description: Datasheet; ComponentLink2URL: http://www.ti.com/lit/ds/symlink/tlc2654a.pdf; ComponentLink3Description: Package Specification; ComponentLink3URL: http://www.ti.com/litv/pdf/mpdi001b
footprint TI-P8 (DIP, 8-Leads, Body 9.59x6.35mm, Pitch 2.54mm)
pins: 1 CXA, 2 IN- (in), 3 IN+ (in), 4 VDD- (power), 5 CLAMP (out), 6 OUT (out), 7 VDD+ (power), 8 CXB

## TLC2654AIPE4
designator U?
Advanced LinCMOS(TM) Low-Noise Chopper-Stabilized Operational Amplifier, 4.6 to 16 V, -40 to 85 degC, 8-pin DIP (P8), Pb-Free (RoHS); Manufacturer: Texas Instruments; PartNumber: TLC2654AIPE4; CMRR(Min)(dB): 110; GBW(Typ)(MHz): 1.9; IIB(Max)(pA): 60; Iq per channel(Max)(mA): 2.4; Number of Channels: 1; Offset Drift(Typ)(uV/C): 0.01; Packing: TUBE; Rating: Catalog; Slew Rate(Typ)(V/us): 2; Sub Family: Low Offset Voltage Amplifier (<=500uV), Precision Amplifier; Total Supply Voltage(Max)(+5V is 5, +/-5V is 10): 16; Total Supply Voltage(Min)(+5V is 5, +/-5V is 10): 4.6; DatasheetVersion: SLOS020G; PackageVersion: 4040082/E, 04/2010; PackageReference: P8; PackageDescription: 8-Pin Plastic In-Line, Body 9.59 x 6.35 mm, Pitch 2.54 mm; Supplier 1: Digi-Key; Supplier Part Number 1: TLC2654AIPE4-ND; Supplier 2: Mouser; Supplier Part Number 2: 595-TLC2654AIPE4; Eco-Plan: Pb-Free (RoHS); Vio (25C)(Max)(mV): 0.01; Mounting Technology: Through Hole; Code_JEDEC: MS-001; ComponentLink1Description: Manufacturer URL; ComponentLink1URL: http://www.ti.com/; ComponentLink2Description: Datasheet; ComponentLink2URL: http://www.ti.com/lit/ds/symlink/tlc2654a.pdf; ComponentLink3Description: Package Specification; ComponentLink3URL: http://www.ti.com/litv/pdf/mpdi001b
footprint TI-P8 (DIP, 8-Leads, Body 9.59x6.35mm, Pitch 2.54mm)
pins: 1 CXA, 2 IN- (in), 3 IN+ (in), 4 VDD- (power), 5 CLAMP (out), 6 OUT (out), 7 VDD+ (power), 8 CXB

## TLC2654AMJB
designator U?
Low Noise Chopper-Stabilized Advanced LinCMOS(TM) Operational Amplifier, 4.6 to 16 V, -55 to 125 degC, 14-pin DIP (J14); Manufacturer: Texas Instruments; PartNumber: TLC2654AMJB; CMRR(Min)(dB): 110; GBW(Typ)(MHz): 1.9; IIB(Max)(pA): 60; Iq per channel(Max)(mA): 2.4; Number of Channels: 1; Offset Drift(Typ)(uV/C): 0.01; Packing: TUBE; Rating: Military; Slew Rate(Typ)(V/us): 2; Sub Family: Low Offset Voltage Amplifier (<=500uV), Precision Amplifier; Total Supply Voltage(Max)(+5V is 5, +/-5V is 10): 16; Total Supply Voltage(Min)(+5V is 5, +/-5V is 10): 4.6; DatasheetVersion: SLOS020G; PackageVersion: 4040083/F, 03/2003; PackageReference: J14; PackageDescription: 14-Pin Ceramic, Glass In-Line, Row Spacing 7.62 mm, Pitch 2.54 mm; Vio (25C)(Max)(mV): 0.01; Mounting Technology: Through Hole; ComponentLink1Description: Manufacturer URL; ComponentLink1URL: http://www.ti.com/; ComponentLink2Description: Datasheet; ComponentLink2URL: http://www.ti.com/lit/ds/symlink/tlc2654am.pdf; ComponentLink3Description: Package Specification; ComponentLink3URL: http://www.ti.com/litv/pdf/mcer002d
footprint TI-J14 (DIP, 14-Leads, Body 19.94x6.92mm, Row Spacing 7.62 mm, Pitch 2.54mm)
pins: 1 CXB, 2 CXA, 3 NC, 4 IN- (in), 5 IN+ (in), 6 NC, 7 VDD- (power), 8 C RETURN (power), 9 CLAMP (out), 10 OUT (out), 11 VDD+ (power), 12 CLK OUT (out), 13 CLK IN (in), 14 INT/~{EXT} (in)

## TLC2654AMJGB
designator U?
Low Noise Chopper-Stabilized Advanced LinCMOS(TM) Operational Amplifier, 4.6 to 16 V, -55 to 125 degC, 8-pin DIP (JG8); Manufacturer: Texas Instruments; PartNumber: TLC2654AMJGB; CMRR(Min)(dB): 110; GBW(Typ)(MHz): 1.9; IIB(Max)(pA): 60; Iq per channel(Max)(mA): 2.4; Number of Channels: 1; Offset Drift(Typ)(uV/C): 0.01; Packing: TUBE; Rating: Military; Slew Rate(Typ)(V/us): 2; Sub Family: Low Offset Voltage Amplifier (<=500uV), Precision Amplifier; Total Supply Voltage(Max)(+5V is 5, +/-5V is 10): 16; Total Supply Voltage(Min)(+5V is 5, +/-5V is 10): 4.6; DatasheetVersion: SLOS020G; PackageVersion: 4040107/C, 08/1996; PackageReference: JG8; PackageDescription: 8-Pin Ceramic, Glass In-Line, Body 9.58 x 6.665 mm, Pitch 2.54 mm; Vio (25C)(Max)(mV): 0.01; Mounting Technology: Through Hole; ComponentLink1Description: Manufacturer URL; ComponentLink1URL: http://www.ti.com/; ComponentLink2Description: Datasheet; ComponentLink2URL: http://www.ti.com/lit/ds/symlink/tlc2654am.pdf; ComponentLink3Description: Package Specification; ComponentLink3URL: http://www.ti.com/litv/pdf/mcer001a
footprint TI-JG8 (DIP, 8-Leads, Body 10.15x7.1mm, Pitch 2.54mm)
pins: 1 CXA, 2 IN- (in), 3 IN+ (in), 4 VDD- (power), 5 CLAMP (out), 6 OUT (out), 7 VDD+ (power), 8 CXB

## TLC2654AQ-8DG4
designator U?
Advanced LinCMOS(TM) Low-Noise Chopper-Stabilized Operational Amplifier, 4.6 to 16 V, -40 to 125 degC, 8-pin SOIC (D8), Green (RoHS & no Sb/Br); Manufacturer: Texas Instruments; PartNumber: TLC2654AQ-8DG4; CMRR(Min)(dB): 105; GBW(Typ)(MHz): 1.9; IIB(Max)(pA): 60; Iq per channel(Max)(mA): 2.4; Number of Channels: 1; Offset Drift(Typ)(uV/C): 0.01; Packing: LARGE T&R; Rating: Catalog; Slew Rate(Typ)(V/us): 2; Sub Family: Low Offset Voltage Amplifier (<=500uV), Precision Amplifier; Total Supply Voltage(Max)(+5V is 5, +/-5V is 10): 16; Total Supply Voltage(Min)(+5V is 5, +/-5V is 10): 4.6; DatasheetVersion: SLOS020G; PackageVersion: 4040047-3/M, 06/2011; PackageReference: D8; PackageDescription: 8-Pin Plastic Small Outline, Body 4.9 x 3.9 mm, Pitch 1.27 mm; Supplier 1: Digi-Key; Supplier Part Number 1: TLC2654AQ-8DG4-ND; Supplier 2: Newark; Supplier Part Number 2: 50M8980; Supplier 3: Mouser; Supplier Part Number 3: 595-TLC2654AQ-8DG4; Eco-Plan: Green (RoHS & no Sb/Br); Vio (25C)(Max)(mV): 0.01; Mounting Technology: Surface Mount; Code_JEDEC: MS-012; ComponentLink1Description: Manufacturer URL; ComponentLink1URL: http://www.ti.com/; ComponentLink2Description: Datasheet; ComponentLink2URL: http://www.ti.com/lit/ds/symlink/tlc2654a.pdf; ComponentLink3Description: Package Specification; ComponentLink3URL: http://www.ti.com/litv/pdf/msoi002j
footprint TI-D8_N (SOIC, 8-Leads, Body 4.9x3.9mm, Pitch 1.27mm, IPC Medium Density)
footprint TI-D8_L (SOIC, 8-Leads, Body 4.9x3.9mm, Pitch 1.27mm, IPC High Density)
footprint TI-D8_M (SOIC, 8-Leads, Body 4.9x3.9mm, Pitch 1.27mm, IPC Low Density)
pins: 1 CXA, 2 IN- (in), 3 IN+ (in), 4 VDD- (power), 5 CLAMP (out), 6 OUT (out), 7 VDD+ (power), 8 CXB

## TLC2654C-8D
designator U?
Low-Noise Chopper-Stabilized Operational Amplifier, 4.6 to 16 V, 0 to 70 degC, 8-pin SOIC (D8), Green (RoHS & no Sb/Br); Manufacturer: Texas Instruments; PartNumber: TLC2654C-8D; CMRR(Min)(dB): 105; GBW(Typ)(MHz): 1.9; IIB(Max)(pA): 60; Iq per channel(Max)(mA): 2.4; Number of Channels: 1; Offset Drift(Typ)(uV/C): 0.01; Packing: TUBE; Rating: Catalog; Slew Rate(Typ)(V/us): 2; Sub Family: Low Offset Voltage Amplifier (<=500uV), Precision Amplifier; Total Supply Voltage(Max)(+5V is 5, +/-5V is 10): 16; Total Supply Voltage(Min)(+5V is 5, +/-5V is 10): 4.6; Vio (25C)(Max)(mV): 0.02; DatasheetVersion: SLOS020G; PackageVersion: 4040047-3/M, 06/2011; PackageReference: D8; PackageDescription: 8-Pin Plastic Small Outline, Body 4.9 x 3.9 mm, Pitch 1.27 mm; Supplier 1: Digi-Key; Supplier Part Number 1: 296-7332-5-ND; Supplier 2: Farnell; Supplier Part Number 2: 1459787; Supplier 3: Mouser; Supplier Part Number 3: 595-TLC2654C-8D; Eco-Plan: Green (RoHS & no Sb/Br); Mounting Technology: Surface Mount; Code_JEDEC: MS-012; ComponentLink1Description: Manufacturer URL; ComponentLink1URL: http://www.ti.com/; ComponentLink2Description: Datasheet; ComponentLink2URL: http://www.ti.com/lit/ds/symlink/tlc2654.pdf; ComponentLink3Description: Package Specification; ComponentLink3URL: http://www.ti.com/litv/pdf/msoi002j
footprint TI-D8_N (SOIC, 8-Leads, Body 4.9x3.9mm, Pitch 1.27mm, IPC Medium Density)
footprint TI-D8_L (SOIC, 8-Leads, Body 4.9x3.9mm, Pitch 1.27mm, IPC High Density)
footprint TI-D8_M (SOIC, 8-Leads, Body 4.9x3.9mm, Pitch 1.27mm, IPC Low Density)
pins: 1 CXA, 2 IN- (in), 3 IN+ (in), 4 VDD- (power), 5 CLAMP (out), 6 OUT (out), 7 VDD+ (power), 8 CXB

## TLC2654C-8DG4
designator U?
Low-Noise Chopper-Stabilized Operational Amplifier, 4.6 to 16 V, 0 to 70 degC, 8-pin SOIC (D8), Green (RoHS & no Sb/Br); Manufacturer: Texas Instruments; PartNumber: TLC2654C-8DG4; CMRR(Min)(dB): 105; GBW(Typ)(MHz): 1.9; IIB(Max)(pA): 60; Iq per channel(Max)(mA): 2.4; Number of Channels: 1; Offset Drift(Typ)(uV/C): 0.01; Packing: TUBE; Rating: Catalog; Slew Rate(Typ)(V/us): 2; Sub Family: Low Offset Voltage Amplifier (<=500uV), Precision Amplifier; Total Supply Voltage(Max)(+5V is 5, +/-5V is 10): 16; Total Supply Voltage(Min)(+5V is 5, +/-5V is 10): 4.6; Vio (25C)(Max)(mV): 0.02; DatasheetVersion: SLOS020G; PackageVersion: 4040047-3/M, 06/2011; PackageReference: D8; PackageDescription: 8-Pin Plastic Small Outline, Body 4.9 x 3.9 mm, Pitch 1.27 mm; Supplier 1: Digi-Key; Supplier Part Number 1: TLC2654C-8DG4-ND; Supplier 2: Mouser; Supplier Part Number 2: 595-TLC2654C-8DG4; Eco-Plan: Green (RoHS & no Sb/Br); Mounting Technology: Surface Mount; Code_JEDEC: MS-012; ComponentLink1Description: Manufacturer URL; ComponentLink1URL: http://www.ti.com/; ComponentLink2Description: Datasheet; ComponentLink2URL: http://www.ti.com/lit/ds/symlink/tlc2654.pdf; ComponentLink3Description: Package Specification; ComponentLink3URL: http://www.ti.com/litv/pdf/msoi002j
footprint TI-D8_N (SOIC, 8-Leads, Body 4.9x3.9mm, Pitch 1.27mm, IPC Medium Density)
footprint TI-D8_L (SOIC, 8-Leads, Body 4.9x3.9mm, Pitch 1.27mm, IPC High Density)
footprint TI-D8_M (SOIC, 8-Leads, Body 4.9x3.9mm, Pitch 1.27mm, IPC Low Density)
pins: 1 CXA, 2 IN- (in), 3 IN+ (in), 4 VDD- (power), 5 CLAMP (out), 6 OUT (out), 7 VDD+ (power), 8 CXB

## TLC2654C-8DR
designator U?
Low-Noise Chopper-Stabilized Operational Amplifier, 4.6 to 16 V, 0 to 70 degC, 8-pin SOIC (D8), Green (RoHS & no Sb/Br); Manufacturer: Texas Instruments; PartNumber: TLC2654C-8DR; CMRR(Min)(dB): 105; GBW(Typ)(MHz): 1.9; IIB(Max)(pA): 60; Iq per channel(Max)(mA): 2.4; Number of Channels: 1; Offset Drift(Typ)(uV/C): 0.01; Packing: LARGE T&R; Rating: Catalog; Slew Rate(Typ)(V/us): 2; Sub Family: Low Offset Voltage Amplifier (<=500uV), Precision Amplifier; Total Supply Voltage(Max)(+5V is 5, +/-5V is 10): 16; Total Supply Voltage(Min)(+5V is 5, +/-5V is 10): 4.6; Vio (25C)(Max)(mV): 0.02; DatasheetVersion: SLOS020G; PackageVersion: 4040047-3/M, 06/2011; PackageReference: D8; PackageDescription: 8-Pin Plastic Small Outline, Body 4.9 x 3.9 mm, Pitch 1.27 mm; Supplier 1: Digi-Key; Supplier Part Number 1: TLC2654C-8DR-ND; Supplier 2: Mouser; Supplier Part Number 2: 595-TLC2654C-8DR; Eco-Plan: Green (RoHS & no Sb/Br); Mounting Technology: Surface Mount; Code_JEDEC: MS-012; ComponentLink1Description: Manufacturer URL; ComponentLink1URL: http://www.ti.com/; ComponentLink2Description: Datasheet; ComponentLink2URL: http://www.ti.com/lit/ds/symlink/tlc2654.pdf; ComponentLink3Description: Package Specification; ComponentLink3URL: http://www.ti.com/litv/pdf/msoi002j
footprint TI-D8_N (SOIC, 8-Leads, Body 4.9x3.9mm, Pitch 1.27mm, IPC Medium Density)
footprint TI-D8_L (SOIC, 8-Leads, Body 4.9x3.9mm, Pitch 1.27mm, IPC High Density)
footprint TI-D8_M (SOIC, 8-Leads, Body 4.9x3.9mm, Pitch 1.27mm, IPC Low Density)
pins: 1 CXA, 2 IN- (in), 3 IN+ (in), 4 VDD- (power), 5 CLAMP (out), 6 OUT (out), 7 VDD+ (power), 8 CXB

## TLC2654C-8DRG4
designator U?
Low-Noise Chopper-Stabilized Operational Amplifier, 4.6 to 16 V, 0 to 70 degC, 8-pin SOIC (D8), Green (RoHS & no Sb/Br); Manufacturer: Texas Instruments; PartNumber: TLC2654C-8DRG4; CMRR(Min)(dB): 105; GBW(Typ)(MHz): 1.9; IIB(Max)(pA): 60; Iq per channel(Max)(mA): 2.4; Number of Channels: 1; Offset Drift(Typ)(uV/C): 0.01; Packing: LARGE T&R; Rating: Catalog; Slew Rate(Typ)(V/us): 2; Sub Family: Low Offset Voltage Amplifier (<=500uV), Precision Amplifier; Total Supply Voltage(Max)(+5V is 5, +/-5V is 10): 16; Total Supply Voltage(Min)(+5V is 5, +/-5V is 10): 4.6; Vio (25C)(Max)(mV): 0.02; DatasheetVersion: SLOS020G; PackageVersion: 4040047-3/M, 06/2011; PackageReference: D8; PackageDescription: 8-Pin Plastic Small Outline, Body 4.9 x 3.9 mm, Pitch 1.27 mm; Supplier 1: Digi-Key; Supplier Part Number 1: TLC2654C-8DRG4-ND; Supplier 2: Mouser; Supplier Part Number 2: 595-TLC2654C-8DRG4; Eco-Plan: Green (RoHS & no Sb/Br); Mounting Technology: Surface Mount; Code_JEDEC: MS-012; ComponentLink1Description: Manufacturer URL; ComponentLink1URL: http://www.ti.com/; ComponentLink2Description: Datasheet; ComponentLink2URL: http://www.ti.com/lit/ds/symlink/tlc2654.pdf; ComponentLink3Description: Package Specification; ComponentLink3URL: http://www.ti.com/litv/pdf/msoi002j
footprint TI-D8_N (SOIC, 8-Leads, Body 4.9x3.9mm, Pitch 1.27mm, IPC Medium Density)
footprint TI-D8_L (SOIC, 8-Leads, Body 4.9x3.9mm, Pitch 1.27mm, IPC High Density)
footprint TI-D8_M (SOIC, 8-Leads, Body 4.9x3.9mm, Pitch 1.27mm, IPC Low Density)
pins: 1 CXA, 2 IN- (in), 3 IN+ (in), 4 VDD- (power), 5 CLAMP (out), 6 OUT (out), 7 VDD+ (power), 8 CXB

## TLC2654C-14DR
designator U?
Low-Noise Chopper-Stabilized Operational Amplifier, 4.6 to 16 V, 0 to 70 degC, 14-pin SOIC (D14), Green (RoHS & no Sb/Br); Manufacturer: Texas Instruments; PartNumber: TLC2654C-14DR; CMRR(Min)(dB): 105; GBW(Typ)(MHz): 1.9; IIB(Max)(pA): 60; Iq per channel(Max)(mA): 2.4; Number of Channels: 1; Offset Drift(Typ)(uV/C): 0.01; Packing: LARGE T&R; Rating: Catalog; Slew Rate(Typ)(V/us): 2; Sub Family: Low Offset Voltage Amplifier (<=500uV), Precision Amplifier; Total Supply Voltage(Max)(+5V is 5, +/-5V is 10): 16; Total Supply Voltage(Min)(+5V is 5, +/-5V is 10): 4.6; Vio (25C)(Max)(mV): 0.02; DatasheetVersion: SLOS020G; PackageVersion: 4040047-5/M, 06/2011; PackageReference: D14; PackageDescription: 14-Pin Plastic Small Outline, Body 8.65 x 3.9 mm, Pitch 1.27 mm; Supplier 1: Digi-Key; Supplier Part Number 1: TLC2654C-14DR-ND; Supplier 2: Mouser; Supplier Part Number 2: 595-TLC2654C-14DR; Eco-Plan: Green (RoHS & no Sb/Br); Mounting Technology: Surface Mount; Code_JEDEC: MS-012; ComponentLink1Description: Manufacturer URL; ComponentLink1URL: http://www.ti.com/; ComponentLink2Description: Datasheet; ComponentLink2URL: http://www.ti.com/lit/ds/symlink/tlc2654.pdf; ComponentLink3Description: Package Specification; ComponentLink3URL: http://www.ti.com/lit/ml/mpds177g/mpds177g.pdf
footprint TI-D14_N (SOIC, 14-Leads, Body 8.65x3.9mm, Pitch 1.27mm, IPC Medium Density)
footprint TI-D14_L (SOIC, 14-Leads, Body 8.65x3.9mm, Pitch 1.27mm, IPC High Density)
footprint TI-D14_M (SOIC, 14-Leads, Body 8.65x3.9mm, Pitch 1.27mm, IPC Low Density)
pins: 1 CXB, 2 CXA, 3 NC, 4 IN- (in), 5 IN+ (in), 6 NC, 7 VDD- (power), 8 C RETURN (power), 9 CLAMP (out), 10 OUT (out), 11 VDD+ (power), 12 CLK OUT (out), 13 CLK IN (in), 14 INT/~{EXT} (in)

## TLC2654C-14DRG4
designator U?
Low-Noise Chopper-Stabilized Operational Amplifier, 4.6 to 16 V, 0 to 70 degC, 14-pin SOIC (D14), Green (RoHS & no Sb/Br); Manufacturer: Texas Instruments; PartNumber: TLC2654C-14DRG4; CMRR(Min)(dB): 105; GBW(Typ)(MHz): 1.9; IIB(Max)(pA): 60; Iq per channel(Max)(mA): 2.4; Number of Channels: 1; Offset Drift(Typ)(uV/C): 0.01; Packing: LARGE T&R; Rating: Catalog; Slew Rate(Typ)(V/us): 2; Sub Family: Low Offset Voltage Amplifier (<=500uV), Precision Amplifier; Total Supply Voltage(Max)(+5V is 5, +/-5V is 10): 16; Total Supply Voltage(Min)(+5V is 5, +/-5V is 10): 4.6; Vio (25C)(Max)(mV): 0.02; DatasheetVersion: SLOS020G; PackageVersion: 4040047-5/M, 06/2011; PackageReference: D14; PackageDescription: 14-Pin Plastic Small Outline, Body 8.65 x 3.9 mm, Pitch 1.27 mm; Supplier 1: Digi-Key; Supplier Part Number 1: TLC2654C-14DRG4-ND; Supplier 2: Mouser; Supplier Part Number 2: 595-TLC2654C-14DRG4; Eco-Plan: Green (RoHS & no Sb/Br); Mounting Technology: Surface Mount; Code_JEDEC: MS-012; ComponentLink1Description: Manufacturer URL; ComponentLink1URL: http://www.ti.com/; ComponentLink2Description: Datasheet; ComponentLink2URL: http://www.ti.com/lit/ds/symlink/tlc2654.pdf; ComponentLink3Description: Package Specification; ComponentLink3URL: http://www.ti.com/lit/ml/mpds177g/mpds177g.pdf
footprint TI-D14_N (SOIC, 14-Leads, Body 8.65x3.9mm, Pitch 1.27mm, IPC Medium Density)
footprint TI-D14_L (SOIC, 14-Leads, Body 8.65x3.9mm, Pitch 1.27mm, IPC High Density)
footprint TI-D14_M (SOIC, 14-Leads, Body 8.65x3.9mm, Pitch 1.27mm, IPC Low Density)
pins: 1 CXB, 2 CXA, 3 NC, 4 IN- (in), 5 IN+ (in), 6 NC, 7 VDD- (power), 8 C RETURN (power), 9 CLAMP (out), 10 OUT (out), 11 VDD+ (power), 12 CLK OUT (out), 13 CLK IN (in), 14 INT/~{EXT} (in)

## TLC2654CN
designator U?
Low-Noise Chopper-Stabilized Operational Amplifier, 4.6 to 16 V, 0 to 70 degC, 14-pin DIP (N14), Pb-Free (RoHS); Manufacturer: Texas Instruments; PartNumber: TLC2654CN; CMRR(Min)(dB): 105; GBW(Typ)(MHz): 1.9; IIB(Max)(pA): 60; Iq per channel(Max)(mA): 2.4; Number of Channels: 1; Offset Drift(Typ)(uV/C): 0.01; Packing: TUBE; Rating: Catalog; Slew Rate(Typ)(V/us): 2; Sub Family: Low Offset Voltage Amplifier (<=500uV), Precision Amplifier; Total Supply Voltage(Max)(+5V is 5, +/-5V is 10): 16; Total Supply Voltage(Min)(+5V is 5, +/-5V is 10): 4.6; Vio (25C)(Max)(mV): 0.02; DatasheetVersion: SLOS020G; PackageVersion: 4040049/E, 12/2002; PackageReference: N14; PackageDescription: 14-Pin Plastic In-Line, Body 19.305 x 6.35 mm, Pitch 2.54 mm; Supplier 1: Digi-Key; Supplier Part Number 1: 296-7333-5-ND; Supplier 2: Newark; Supplier Part Number 2: 31C2120; Supplier 3: Mouser; Supplier Part Number 3: 595-TLC2654CN; Eco-Plan: Pb-Free (RoHS); Mounting Technology: Through Hole; Code_JEDEC: MS-001; ComponentLink1Description: Manufacturer URL; ComponentLink1URL: http://www.ti.com/; ComponentLink2Description: Datasheet; ComponentLink2URL: http://www.ti.com/lit/ds/symlink/tlc2654.pdf; ComponentLink3Description: Package Specification; ComponentLink3URL: http://www.ti.com/lit/ml/mpdi002c/mpdi002c.pdf
footprint TI-N14 (DIP, 14-Leads, Body 19.305x6.35 mm, Pitch 2.54 mm)
pins: 1 CXB, 2 CXA, 3 NC, 4 IN- (in), 5 IN+ (in), 6 NC, 7 VDD- (power), 8 C RETURN (power), 9 CLAMP (out), 10 OUT (out), 11 VDD+ (power), 12 CLK OUT (out), 13 CLK IN (in), 14 INT/~{EXT} (in)